# Altium integrated library NEC DSP 16-Bit.IntLib: 2 symbols
Pins are listed as number, name and electrical type; pins without a type are passive.

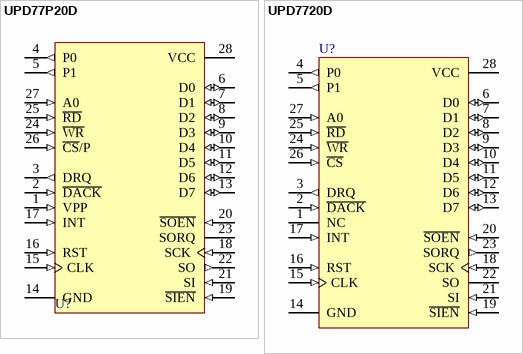
[diagram p0: symbols UPD77P20D to UPD7720D]

## UPD77P20D
designator U?
UV Erasable Signal Processing Interface (SPI); Published: 8-Jun-2000; LatestRevisionDate: 17-Jul-2002; LatestRevisionNote: Re-released for DXP Platform.; DatasheetVersion: 1984; PackageVersion: 1984; PackageReference: CDIP28D; Publisher: Altium Limited; PackageDescription: DIP; 28 Leads; Row Spacing 15.24 mm; Pitch 2.54 mm; ComponentLink1Description: Manufacturer Link; ComponentLink1URL: http://www.necel.com/
footprint CDIP28D (DIP; 28 Leads; Row Spacing 15.24 mm; Pitch 2.54 mm)
pins: 1 VPP (in), 2 ~{DACK} (in), 3 DRQ (out), 4 P0 (out), 5 P1 (out), 6 D0 (io), 7 D1 (io), 8 D2 (io), 9 D3 (io), 10 D4 (io), 11 D5 (io), 12 D6 (io), 13 D7 (io), 14 GND (power), 15 CLK (in), 16 RST (in), 17 INT (in), 18 SCK (in), 19 ~{SIEN} (in), 20 ~{SOEN} (in), 21 SI (in), 22 SO (out), 23 SORQ (hiz), 24 ~{WR} (in), 25 ~{RD} (in), 26 ~{CS}/P (in), 27 A0 (in), 28 VCC (power)

## UPD7720D
designator U?
Digital Signal Processor; Published: 8-Jun-2000; LatestRevisionDate: 17-Jul-2002; LatestRevisionNote: Re-released for DXP Platform.; DatasheetVersion: 1984; PackageVersion: 1984; PackageReference: CDIP28D; Publisher: Altium Limited; PackageDescription: DIP; 28 Leads; Row Spacing 15.24 mm; Pitch 2.54 mm; ComponentLink1Description: Manufacturer Link; ComponentLink1URL: http://www.necel.com/
footprint CDIP28D (DIP; 28 Leads; Row Spacing 15.24 mm; Pitch 2.54 mm)
pins: 1 NC, 2 ~{DACK} (in), 3 DRQ (out), 4 P0 (out), 5 P1 (out), 6 D0 (io), 7 D1 (io), 8 D2 (io), 9 D3 (io), 10 D4 (io), 11 D5 (io), 12 D6 (io), 13 D7 (io), 14 GND (power), 15 CLK (in), 16 RST (in), 17 INT (in), 18 SCK (in), 19 ~{SIEN} (in), 20 ~{SOEN} (in), 21 SI (in), 22 SO (hiz), 23 SORQ (out), 24 ~{WR} (in), 25 ~{RD} (in), 26 ~{CS} (in), 27 A0 (in), 28 VCC (power)